# Altium schematic symbol library Quad_Schmitt_NAND.SchLib: 1 symbol
Pins are listed as number, name and electrical type; pins without a type are passive.

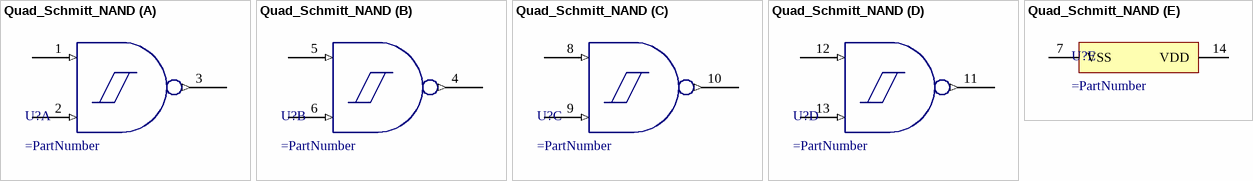
[diagram p0: symbol Quad_Schmitt_NAND]

## Quad_Schmitt_NAND
designator U?
part A pins: 1 (in), 2 (in), 3 (out)
part B pins: 4 (out), 5 (in), 6 (in)
part C pins: 8 (in), 9 (in), 10 (out)
part D pins: 11 (out), 12 (in), 13 (in)
part E pins: 7 VSS, 14 VDD